# Altium footprint library PCB - LEADLESS - SON - TI SON-12 DRZ.PCBLIB: 1 footprints
Each footprint in its own frame and in the unit in brackets; x right, y up, seen from the top. Pads: shape width x height; smd on the part's side, far side on the other; paste and mask are expansions set on the pad; w line width, h text height; cw(c..) or ccw(c..) is an arc to the next point about the centre after c.
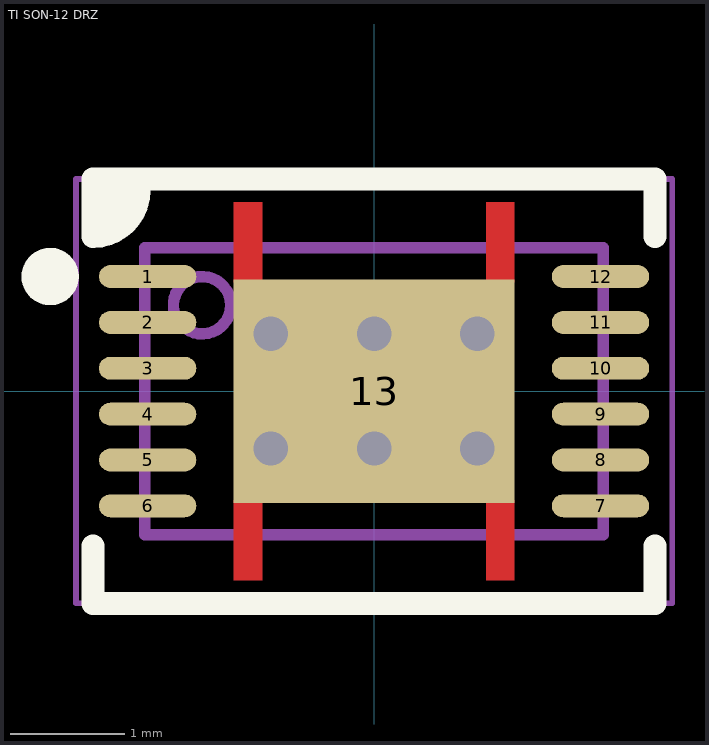
[diagram p0: the footprint, top view; thin cyan lines are the x and y axes]

## TI SON-12 DRZ [mm] "SON, 12-Leads, Body 2.50x4.00mm, Pitch 0.40mm, Thermal Pad 3.30x2.45mm, IPC Medium Density"
height 1
pads (13):
  oval 0.85x0.2 smd paste-0.025 mask+0.05: 1(-1.975,1) 2(-1.975,0.6) 3(-1.975,0.2) 4(-1.975,-0.2) 5(-1.975,-0.6) 6(-1.975,-1) 7(1.975,-1) 8(1.975,-0.6) 9(1.975,-0.2) 10(1.975,0.2) 11(1.975,0.6) 12(1.975,1)
  rect 2.45x1.95 smd paste-10 mask+0.05: 13(0,0)
via -0.9,-0.5 diameter 0.6 hole 0.3
via -0.9,0.5 diameter 0.6 hole 0.3
via 0,-0.5 diameter 0.6 hole 0.3
via 0,0.5 diameter 0.6 hole 0.3
via 0.9,-0.5 diameter 0.6 hole 0.3
via 0.9,0.5 diameter 0.6 hole 0.3
Top Layer:
  region: -1.225,-0.95 -1.225,-1.65 -0.975,-1.65 -0.975,-0.95
  region: -0.975,0.95 -0.975,1.65 -1.225,1.65 -1.225,0.95
  region: 0.975,-0.95 0.975,-1.65 1.225,-1.65 1.225,-0.95
  region: 1.225,0.95 1.225,1.65 0.975,1.65 0.975,0.95
Top Overlay:
  circle w0.25: c-2.825,1 r0.125
  region: -2.05,1.85 -2.45,1.85 -2.45,1.45 -2.25,1.45 -2.05,1.65
  lines w0.2: -2.45,-1.35 -2.45,-1.85 2.45,-1.85 2.45,-1.35 ; -2.05,1.75 cw(c-2.45,1.75) -2.45,1.35 -2.45,1.85 2.45,1.85 2.45,1.35
Top Paste:
  rectangle: -1.225,-1.625 -0.975,-1.1
  rectangle: -1.225,1.1 -0.975,1.625
  region: 1.225,-1.1 0.975,-1.1 0.975,-1.625 1.225,-1.625
  region: 1.225,1.625 0.975,1.625 0.975,1.1 1.225,1.1
  rectangle: -1.1,0.1 -0.1,0.9
  region: 1.1,0.9 0.1,0.9 0.1,0.1 1.1,0.1
  region: 1.1,-0.1 0.1,-0.1 0.1,-0.9 1.1,-0.9
  rectangle: -1.1,-0.9 -0.1,-0.1
Top Component Center:
  lines w0.1: -0.5,0 0.5,0 ; 0,-0.5 0,0.5
Top Assembly:
  circle w0.1: c-1.5,0.75 r0.25
  lines w0.1: -2,-1.25 2,-1.25 2,1.25 -2,1.25 -2,-1.25
Top Courtyard:
  lines w0.05: -2.6,-1.85 -2.6,1.85 2.6,1.85 2.6,-1.85 -2.6,-1.85
3D body: height 1, standoff 0.05, extent -2,-1.25 2,1.25